# Altium schematic symbol library Symbols.SchLib: 43 symbols
Pins are listed as number, name and electrical type; pins without a type are passive.

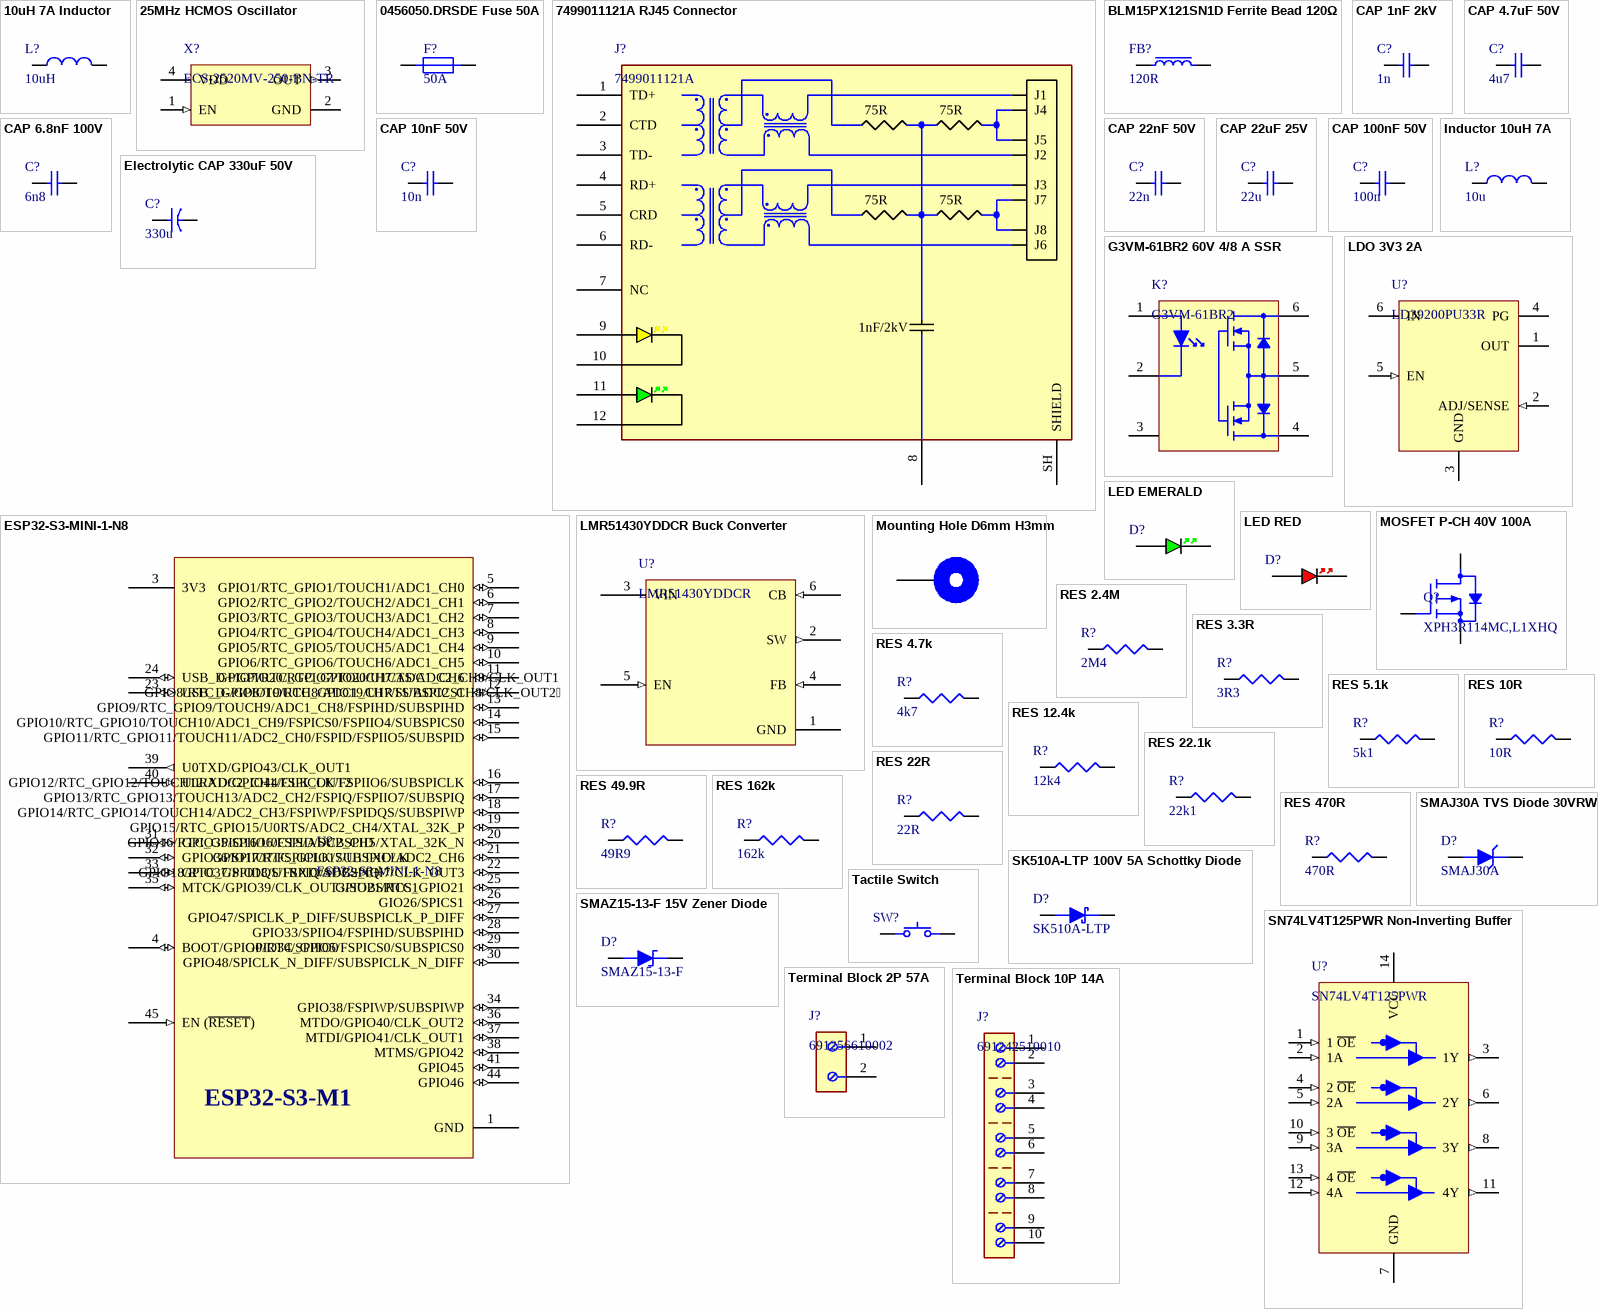
[diagram p0: symbols 10uH 7A Inductor to Terminal Block 10P 14A]

## 10uH 7A Inductor
designator L?, comment 10uH
10 µH Shielded Inductor 7 A 29.82mOhm Max Nonstandard; Manufacturer: Pulse Electronics; Mfr. Part #: PM5432.103NLT; Qty.: 1; Ext. Price: 1.83; Supplier: DigiKey; Supplier Part #: 553-PM5432.103NLTCT-ND; Package: SMD, 6.8x6.6; Unit Price: 1.83; ComponentLink1Description: Datasheet; ComponentLink1URL: https://www.yageogroup.com/content/datasheet/asset/file/DATASHEET_P890; ComponentLink2Description: Distributor Link; ComponentLink2URL: https://www.digikey.com/en/products/detail/pulse-electronics/PM5432-103NLT/13693950
footprint L SMD 6.8x6.6
pins: 1, 2

## 25MHz HCMOS Oscillator
designator X?, comment ECS-2520MV-250-BN-TR
25 MHz XO (Standard) HCMOS Oscillator 1.6V ~ 3.6V Enable/Disable 4-SMD, No Lead; Manufacturer: ECS Inc.; Qty.: 1; Ext. Price: 1.16; Mfr. Part #: ECS-2520MV-250-BN-TR; Supplier: DigiKey; Supplier Part #: XC2751CT-ND; Package: 4-SMD (2.5x2); Unit Price: 1.16; ComponentLink1Description: Datasheet; ComponentLink1URL: https://ecsxtal.com/store/pdf/ECS-2520MV.pdf; ComponentLink2Description: Distributor Link; ComponentLink2URL: https://www.digikey.com/en/products/detail/ecs-inc/ECS-2520MV-250-BN-TR/8593607?s=N4IgTCBcDaIKIGEDKBaMBWMAGAsgNTXSxQCEA5FAFQCUQBdAXyA
footprint SMD2520-4P
pins: 1 EN (in), 2 GND (power), 3 OUT (out), 4 VDD (power)

## 0456050.DRSDE Fuse 50A
designator F?, comment 50A
50 A 250 V 80 V Fuse Board Mount (Cartridge Style Excluded) Surface Mount 2-SMD, Square End Block; Manufacturer: Littelfuse Inc.; Mfr. Part #: 0456050.DRSDE; Qty.: 1; Ext. Price: 6.13; Supplier: DigiKey; Supplier Part #: 18-0456050.DRSDECT-ND; Package: SMD,12.2 x 4.5 x 4.5 mm; Unit Price: 6.13; ComponentLink1Description: Datasheet; ComponentLink1URL: https://www.littelfuse.com/assetdocs/littelfuse-nano2-fuse-456sde-series-datasheet?assetguid=a4746110-f339-4e5a-85ce-ce23fbd88349; ComponentLink2Description: Distributor Link; ComponentLink2URL: https://www.digikey.com/en/products/detail/littelfuse-inc/0456050-DRSDE/14005839
footprint SMD Fuse,12.2 x 4.5 x 4.5 mm
pins: 1, 2

## 7499011121A RJ45 Connector
designator J?, comment 7499011121A
1 Port RJ45 with Magnetics Through Hole 10/100 Base-T, AutoMDIX; Manufacturer: Würth Elektronik; Qty.: 1; Ext. Price: 6.55; Mfr. Part #: 7499011121A; Supplier: DigiKey; Supplier Part #: 732-4509-5-ND; Package: Through Hole; Unit Price: 6.55; ComponentLink1Description: Datasheet; ComponentLink1URL: https://www.we-online.com/components/products/datasheet/7499011121A.pdf; ComponentLink2Description: Distributor Link; ComponentLink2URL: https://www.digikey.com/en/products/detail/w%C3%BCrth-elektronik/7499011121A/4031599
footprint RJ45 TH Connector
pins: 1 TD+, 2 CTD, 3 TD-, 4 RD+, 5 CRD, 6 RD-, 7 NC, 8, 9 Y_LED_A, 10 Y_LED_K, 11 G_LED_A, 12 G_LED_K, SH SHIELD
text: J1; 75R; J4; J5; J2; J3; J7; J8; J6; 1nF/2kV

## BLM15PX121SN1D Ferrite Bead 120Ω
designator FB?, comment 120R
120 Ohms @ 100 MHz 1 Power Line Ferrite Bead 0402 (1005 Metric) 2A 55mOhm; Manufacturer: Murata Electronics; Mfr. Part #: BLM15PX121SN1D; Qty.: 1; Ext. Price: 0.1; Supplier: DigiKey; Supplier Part #: 490-9656-1-ND; Package: 0402; Unit Price: 0.1; ComponentLink1Description: Datasheet; ComponentLink1URL: https://www.murata.com/en-us/products/productdata/8796740059166/ENFA0018.pdf; ComponentLink2Description: Distributor Link; ComponentLink2URL: https://www.digikey.com/en/products/detail/murata-electronics/BLM15PX121SN1D/4421095?s=N4IgTCBcDaIEIBkCyBGArABQBorCgygHIoAiIAugL5A
footprint FB0402
pins: 1, 2

## CAP 1nF 2kV
designator C?, comment 1n
2kV 1nF X7R ±10% 1206 Multilayer Ceramic Capacitors MLCC - SMD/SMT ROHS; Manufacturer: Johanson Dielectrics; Mfr. Part #: 202R18W102KV4E; Qty.: 1; Ext. Price: 0.17; Supplier: DigiKey; Supplier Part #: 709-VPDD202W102K1GV001ECT-ND; Package: 1206; Unit Price: 0.17; ComponentLink1Description: Datasheet; ComponentLink2Description: Distributor Link; ComponentLink2URL: https://www.digikey.com/en/products/detail/johanson-dielectrics-inc/VPDD202W102K1GV001E/1556359?s=N4IgTCBcDa4AxgEoEYAcB1ZCDSA1ALAKIgC6AvkA
footprint C1206
pins: 1, 2

## CAP 4.7uF 50V
designator C?, comment 4u7
4.7 µF ±20% 50V Ceramic Capacitor X7R 0805 (2012 Metric); Manufacturer: Murata Electronics; Mfr. Part #: GRM21BZ71H475ME15K; Qty.: 1; Ext. Price: 0.27; Supplier: DigiKey; Supplier Part #: 490-GRM21BZ71H475ME15KCT-ND; Package: 0805; Unit Price: 0.27; ComponentLink1Description: Datasheet; ComponentLink1URL: https://search.murata.co.jp/Ceramy/image/img/A01X/G101/ENG/GRM21BZ71H475ME15-01.pdf; ComponentLink2Description: Distributor Link; ComponentLink2URL: https://www.digikey.com/en/products/detail/murata-electronics/GRM21BZ71H475ME15K/13904866
footprint C0805
pins: 1, 2

## CAP 6.8nF 100V
designator C?, comment 6n8
6800 pF ±10% 100V Ceramic Capacitor X7R 0402 (1005 Metric); Manufacturer: Samsung Electro-Mechanics; Mfr. Part #: CL05B682KC5VPNC; Qty.: 10; Ext. Price: 0.49; Supplier: DigiKey; Supplier Part #: 1276-CL05B682KC5VPNCCT-ND; Package: 0402; Unit Price: 0.049; ComponentLink1Description: Datasheet; ComponentLink1URL: https://mm.digikey.com/Volume0/opasdata/d220001/medias/docus/5458/CL05B682KC5VPNC_Spec.pdf; ComponentLink2Description: Distributor Link; ComponentLink2URL: https://www.digikey.com/en/products/detail/samsung-electro-mechanics/CL05B682KC5VPNC/20498579
footprint C0402
pins: 1, 2

## CAP 10nF 50V
designator C?, comment 10n
10000 pF ±10% 50V Ceramic Capacitor X7R 0402 (1005 Metric); Manufacturer: KEMET; Mfr. Part #: C0402C103K5REC7411; Qty.: 10; Ext. Price: 0.56; Supplier: DigiKey; Supplier Part #: 399-C0402C103K5REC7411CT-ND; Package: 0402; Unit Price: 0.056; ComponentLink1Description: Datasheet; ComponentLink1URL: https://www.yageogroup.com/content/datasheet/asset/file/KEM_C1090_X7R_ESD; ComponentLink2Description: Distributor Link; ComponentLink2URL: https://www.digikey.com/en/products/detail/kemet/C0402C103K5REC7411/8645041
footprint C0402
pins: 1, 2

## CAP 22nF 50V
designator C?, comment 22n
0.022 µF ±10% 50V Ceramic Capacitor X7R 0402 (1005 Metric); Manufacturer: YAGEO; Mfr. Part #: CC0402KRX7R9BB223; Qty.: 10; Ext. Price: 0.29; Supplier: DigiKey; Supplier Part #: 311-1722-1-ND; Package: 0402; Unit Price: 0.029; ComponentLink1Description: Datasheet; ComponentLink1URL: https://www.yageogroup.com/content/datasheet/asset/file/UPY-GPHC_X7R_6_3V-TO-250V; ComponentLink2Description: Distributor Link; ComponentLink2URL: https://www.digikey.com/en/products/detail/yageo/CC0402KRX7R9BB223/5195131
footprint C0402
pins: 1, 2

## CAP 22uF 25V
designator C?, comment 22u
22 µF ±20% 25V Ceramic Capacitor X5R 0805 (2012 Metric); Manufacturer: Samsung Electro-Mechanics; Mfr. Part #: CL21A226MAYNNNE; Qty.: 10; Ext. Price: 0.43; Supplier: DigiKey; Supplier Part #: 1276-CL21A226MAYNNNECT-ND; Package: 0805; Unit Price: 0.043; ComponentLink1Description: Datasheet; ComponentLink1URL: https://mm.digikey.com/Volume0/opasdata/d220001/medias/docus/339/CL21A226MAYNNNE_Spec.pdf; ComponentLink2Description: Distributor Link; ComponentLink2URL: https://www.digikey.com/en/products/detail/samsung-electro-mechanics/CL21A226MAYNNNE/10479857
footprint C0805
pins: 1, 2

## CAP 100nF 50V
designator C?, comment 100n
0.1 µF ±10% 50V Ceramic Capacitor X7R 0603 (1608 Metric); Manufacturer: KEMET; Mfr. Part #: C0603C104K5RACTU; Qty.: 10; Ext. Price: 0.11; Supplier: DigiKey; Supplier Part #: 399-C0603C104K5RACTUCT-ND; Package: 0603; Unit Price: 0.011; ComponentLink1Description: Datasheet; ComponentLink1URL: https://www.yageogroup.com/content/datasheet/asset/file/KEM_C1002_X7R_SMD; ComponentLink2Description: Distributor Link; ComponentLink2URL: https://www.digikey.com/en/products/detail/kemet/C0603C104K5RACTU/1465594
footprint C0603
pins: 1, 2

## Electrolytic CAP 330uF 50V
designator C?, comment 330u
330 µF 50 V Aluminum Electrolytic Capacitors Radial, Can - SMD 2000 Hrs @ 105°C; Manufacturer: Nichicon; Mfr. Part #: UCM1H331MNL1GS; Qty.: 1; Ext. Price: 1.18; Supplier: DigiKey; Supplier Part #: 493-14535-1-ND; Package: SMD,D10.3xL10.3mm; Unit Price: 1.18; ComponentLink1Description: Datasheet; ComponentLink1URL: https://www.nichicon.co.jp/english/series_items/catalog_pdf/e-ucm.pdf; ComponentLink2Description: Distributor Link; ComponentLink2URL: https://www.digikey.com/en/products/detail/nichicon/UCM1H331MNL1GS/4991858
footprint SMD CAP,D10.3xL10.3mm
pins: 1, 2

## ESP32-S3-MINI-1-N8
designator U?
Small-sized module supporting 2.4 GHz Wi-Fi (802.11b/g/n) and Bluetooth® 5 / Built around ESP32-S3 series of SoCs, Xtensa® dual-core 32-bit LX7 microprocessor. / Flash up to 8 MB, optional 2 MB PSRAM in chip package. / 39 GPIOs, rich set of peripherals; Manufacturer: Espressif Systems; Qty.: 1; Ext. Price: 5.28; Mfr. Part #: ESP32-S3-MINI-1-N8; Supplier: DigiKey; Supplier Part #: 5407-ESP32-S3-MINI-1-N8CT-ND; Package: SMD; Unit Price: 5.28; ComponentLink1Description: Datasheet; ComponentLink1URL: https://documentation.espressif.com/esp32-s3-mini-1_mini-1u_datasheet_en.pdf; ComponentLink2Description: Distributor Link; ComponentLink2URL: https://www.digikey.com/en/products/detail/espressif-systems/ESP32-S3-MINI-1-N8/15295890
footprint ESP32-S3-MINI-1-N8
pins: 1 GND (power), 3 3V3 (power), 4 BOOT/GPIO0/RTC_GPIO0 (io), 5 GPIO1/RTC_GPIO1/TOUCH1/ADC1_CH0 (io), 6 GPIO2/RTC_GPIO2/TOUCH2/ADC1_CH1 (io), 7 GPIO3/RTC_GPIO3/TOUCH3/ADC1_CH2 (io), 8 GPIO4/RTC_GPIO4/TOUCH4/ADC1_CH3 (io), 9 GPIO5/RTC_GPIO5/TOUCH5/ADC1_CH4 (io), 10 GPIO6/RTC_GPIO6/TOUCH6/ADC1_CH5 (io), 11 GPIO7/RTC_GPIO7/TOUCH7/ADC1_CH6 (io), 12 GPIO8/RTC_GPIO8/TOUCH8/ADC1_CH7/SUBSPICS1 (io), 13 GPIO9/RTC_GPIO9/TOUCH9/ADC1_CH8/FSPIHD/SUBSPIHD (io), 14 GPIO10/RTC_GPIO10/TOUCH10/ADC1_CH9/FSPICS0/FSPIIO4/SUBSPICS0 (io), 15 GPIO11/RTC_GPIO11/TOUCH11/ADC2_CH0/FSPID/FSPIIO5/SUBSPID (io), 16 GPIO12/RTC_GPIO12/TOUCH12/ADC2_CH1/FSPICLK/FSPIIO6/SUBSPICLK (io), 17 GPIO13/RTC_GPIO13/TOUCH13/ADC2_CH2/FSPIQ/FSPIIO7/SUBSPIQ (io), 18 GPIO14/RTC_GPIO14/TOUCH14/ADC2_CH3/FSPIWP/FSPIDQS/SUBSPIWP (io), 19 GPIO15/RTC_GPIO15/U0RTS/ADC2_CH4/XTAL_32K_P (io), 20 GPIO16/RTC_GPIO16/U0CTS/ADC2_CH5/XTAL_32K_N (io), 21 GPIO17/RTC_GPIO17/U1TXD/ADC2_CH6 (io), 22 GPIO18/RTC_GPIO18/U1RXD/ADC2_CH7/CLK_OUT3 (io), 23 USB_D-/GPIO19/RTC_GPIO19/U1RTS/ADC2_CH8/CLK_OUT2 (io), 24 USB_D+/GPIO20/RTC_GPIO20/U1CTS/ADC2_CH9/CLK_OUT1 (io), 25 GPIO21/RTC_GPIO21 (io), 26 GIO26/SPICS1 (io), 27 GPIO47/SPICLK_P_DIFF/SUBSPICLK_P_DIFF (io), 28 GPIO33/SPIIO4/FSPIHD/SUBSPIHD (io), 29 GPIO34/SPIIO5/FSPICS0/SUBSPICS0 (io), 30 GPIO48/SPICLK_N_DIFF/SUBSPICLK_N_DIFF (io), 31 GPIO35/SPIIO6/FSPID/SUBSPID (io), 32 GPIO36/SPIIO7/FSPICLK/SUBSPICLK (io), 33 GPIO37/SPIDQS/FSPIQ/SUBSPIQ (io), 34 GPIO38/FSPIWP/SUBSPIWP (io), 35 MTCK/GPIO39/CLK_OUT3/SUBSPICS1 (io), 36 MTDO/GPIO40/CLK_OUT2 (io), 37 MTDI/GPIO41/CLK_OUT1 (io), 38 MTMS/GPIO42 (io), 39 U0TXD/GPIO43/CLK_OUT1 (out), 40 U0RXD/GPIO44/CLK_OUT2 (in), 41 GPIO45 (io), 44 GPIO46 (io), 45 EN (~{RESET}) (in)
text: ESP32-S3-M1

## G3VM-61BR2 60V 4/8 A SSR
designator K?, comment G3VM-61BR2
2.5kV 60V 1.64V DIP-6 Solid State Relays (SSR) RoHS; Manufacturer: Omron Electronics Inc-EMC Div; Qty.: 1; Ext. Price: 10.71; Mfr. Part #: G3VM-61BR2; Supplier: DigiKey; Supplier Part #: 39-G3VM-61BR2-ND; Package: DIP-6; Unit Price: 10.71; ComponentLink1Description: Datasheet; ComponentLink1URL: https://mm.digikey.com/Volume0/opasdata/d220001/medias/docus/311/G3VM-zBRzzzERzz_DS.pdf; ComponentLink2Description: Distributor Link; ComponentLink2URL: https://www.digikey.com/en/products/detail/omron-electronics-inc-emc-div/G3VM-61BR2/9920126?s=N4IgTCBcDaIOIGYBqBZAtANgIwCEBKEAugL5A
footprint DIP6
pins: 1, 2, 3 (hiz), 4 (power), 5 (power), 6 (power)

## Inductor 10uH 7A
designator L?, comment 10u
10 µH Shielded Drum Core, Wirewound Inductor 7.1 A 21mOhm Max Nonstandard; Manufacturer: Würth Elektronik; Mfr. Part #: 7447709100; Qty.: 1; Ext. Price: 2.57; Supplier: DigiKey; Supplier Part #: 732-7447709100CT-ND; Package: SMD,12x12.8mm; Unit Price: 2.57; ComponentLink1Description: Datasheet; ComponentLink1URL: https://www.we-online.com/components/products/datasheet/7447709100.pdf; ComponentLink2Description: Distributor Link; ComponentLink2URL: https://www.digikey.com/en/products/detail/w%C3%BCrth-elektronik/7447709100/1638646
footprint L SMD,12x12.8mm
pins: 1, 2

## LDO 3V3 2A
designator U?, comment LD39200PU33R
Linear Voltage Regulator IC Positive Fixed 1 Output 2A 6-DFN (3x3); Manufacturer: STMicroelectronics; Qty.: 1; Ext. Price: 1.05; Mfr. Part #: LD39200PU33R; Supplier: DigiKey; Supplier Part #: 497-15229-1-ND; Package: DFN-6(3x3); Unit Price: 1.05; ComponentLink1Description: Datasheet; ComponentLink1URL: https://www.st.com/content/ccc/resource/technical/document/datasheet/4b/e6/2e/a4/16/04/46/9d/DM00102135.pdf/files/DM00102135.pdf/jcr:content/translations/en.DM00102135.pdf; ComponentLink2Description: Distributor Link; ComponentLink2URL: https://www.digikey.com/en/products/detail/stmicroelectronics/LD39200PU33R/5131797
footprint DFN-6(3x3)
pins: 1 OUT (power), 2 ADJ/SENSE (in), 3 GND (power), 4 PG (hiz), 5 EN (in), 6 IN (power)

## LED EMERALD
designator D?, comment XL-2012UGC  (value not drawn)
Green 525nm LED Indication - Discrete 2.9V 0805 (2012 Metric); Manufacturer: XINGLIGHT; Qty.: 3000; Ext. Price: 33.75; Mfr. Part #: XL-2012UGC; Supplier: DigiKey; Supplier Part #: 5962-XL-2012UGCTR-ND; Package: 0805; Unit Price: 0.01125; ComponentLink1Description: Datasheet; ComponentLink1URL: https://mm.digikey.com/Volume0/opasdata/d220001/medias/docus/6472/5962_XL-2012UGC%200805%E7%BF%A0%E7%BB%BF.pdf; ComponentLink2Description: Distributor Link; ComponentLink2URL: https://www.digikey.com/en/products/detail/xinglight/XL-2012UGC/25673312
footprint 0805 G LED
pins: 1, 2

## LED RED
designator D?, comment XL-2012SURC  (value not drawn)
Red 623nm LED Indication - Discrete 2.1V 0805 (2012 Metric); Manufacturer: XINGLIGHT; Qty.: 3000; Ext. Price: 33.75; Mfr. Part #: XL-2012SURC; Supplier: DigiKey; Supplier Part #: 5962-XL-2012SURCTR-ND; Package: 0805; Unit Price: 0.01125; ComponentLink1Description: Datasheet; ComponentLink1URL: https://mm.digikey.com/Volume0/opasdata/d220001/medias/docus/6472/5962_XL-2012SURC%200805%E7%BA%A2.pdf; ComponentLink2Description: Distributor Link; ComponentLink2URL: https://www.digikey.com/en/products/detail/xinglight/XL-2012SURC/25673006
footprint 0805 R LED
pins: 1, 2

## LMR51430YDDCR Buck Converter
designator U?, comment LMR51430YDDCR
Buck Switching Regulator IC Positive Adjustable 0.6V 1 Output 3A SOT-23-6 Thin, TSOT-23-6; Manufacturer: Texas Instruments; Qty.: 1; Ext. Price: 1.58; Mfr. Part #: LMR51430YDDCR; Supplier: DigiKey; Supplier Part #: 296-LMR51430YDDCRCT-ND; Package: TSOT-23-6; Unit Price: 1.58; ComponentLink1Description: Datasheet; ComponentLink1URL: https://www.ti.com/lit/ds/symlink/lmr51430.pdf; ComponentLink2Description: Distributor Link; ComponentLink2URL: https://www.digikey.com/en/products/detail/texas-instruments/LMR51430YDDCR/17878361?s=N4IgTCBcDaIDIFkBKBWAjAFgMwAYCaAIgQMJIgC6AvkA
footprint SOT-23-6
pins: 1 GND (power), 2 SW (out), 3 VIN (power), 4 FB (in), 5 EN (in), 6 CB (in)

## MOSFET P-CH 40V 100A
designator Q?, comment XPH3R114MC,L1XHQ
P-Channel 40 V 100A (Ta) 960mW (Ta), 170W (Tc) Surface Mount 8-SOP Advance (5x5); Manufacturer: Toshiba Semiconductor and Storage; Qty.: 1; Ext. Price: 1.82; Mfr. Part #: XPH3R114MC,L1XHQ; Supplier: DigiKey; Supplier Part #: 264-XPH3R114MCL1XHQCT-ND; Package: 8-SOP Advance (5x5); Unit Price: 1.82; ComponentLink1Description: Datasheet; ComponentLink1URL: https://toshiba.semicon-storage.com/info/XPH3R114MC_datasheet_en_20241216.pdf?did=63639&prodName=XPH3R114MC; ComponentLink2Description: Distributor Link; ComponentLink2URL: https://www.digikey.com/en/products/detail/toshiba-semiconductor-and-storage/XPH3R114MC-L1XHQ/12155003
footprint 8-SOP Advance (5x5)
pins: 1, 4, 5

## Mounting Hole D6mm H3mm
designator J?  (value not drawn)  (no BOM)
footprint MH D6mm H3mm
pins: 1

## RES 2.4M
designator R?, comment 2M4
2.4 MOhms ±1% 0.1W, 1/10W Chip Resistor 0603 (1608 Metric) Moisture Resistant Thick Film; Manufacturer: YAGEO; Mfr. Part #: RC0603FR-072M4L; Qty.: 10; Ext. Price: 0.11; Supplier: DigiKey; Supplier Part #: 13-RC0603FR-072M4LCT-ND; Package: 0603; Unit Price: 0.011; ComponentLink1Description: Datasheet; ComponentLink1URL: https://www.yageogroup.com/content/datasheet/asset/file/PYU-RT_1-TO-0-01_ROHS_L; ComponentLink2Description: Distributor Link; ComponentLink2URL: https://www.digikey.com/en/products/detail/yageo/RC0603FR-072M4L/5918310
footprint R0603
pins: 1, 2

## RES 3.3R
designator R?, comment 3R3
3.3 Ohms ±1% 0.063W, 1/16W Chip Resistor 0402 (1005 Metric) Moisture Resistant Thick Film; Manufacturer: YAGEO; Mfr. Part #: RC0402FR-073R3L; Qty.: 10; Ext. Price: 0.06; Supplier: DigiKey; Supplier Part #: 311-3.30LRCT-ND; Package: 0402; Unit Price: 0.006; ComponentLink1Description: Datasheet; ComponentLink1URL: https://www.yageogroup.com/content/datasheet/asset/file/PYU-RC_GROUP_51_ROHS_L; ComponentLink2Description: Distributor Link; ComponentLink2URL: https://www.digikey.com/en/products/detail/yageo/RC0402FR-073R3L/1037049
footprint R0402
pins: 1, 2

## RES 4.7k
designator R?, comment 4k7
4.7 kOhms ±1% 0.1W, 1/10W Chip Resistor 0603 (1608 Metric) Moisture Resistant Thick Film; Manufacturer: YAGEO; Mfr. Part #: RC0603FR-074K7L; Qty.: 10; Ext. Price: 0.09; Supplier: DigiKey; Supplier Part #: 311-4.70KHRCT-ND; Package: 0603; Unit Price: 0.009; ComponentLink1Description: Datasheet; ComponentLink1URL: https://www.yageogroup.com/content/datasheet/asset/file/PYU-RC_GROUP_51_ROHS_L; ComponentLink2Description: Distributor Link; ComponentLink2URL: https://www.digikey.com/en/products/detail/yageo/RC0603FR-074K7L/727212
footprint R0603
pins: 1, 2

## RES 5.1k
designator R?, comment 5k1
5.1 kOhms ±1% 0.1W, 1/10W Chip Resistor 0603 (1608 Metric) Moisture Resistant Thick Film; Manufacturer: YAGEO; Mfr. Part #: RC0603FR-075K1L; Qty.: 10; Ext. Price: 0.07; Supplier: DigiKey; Supplier Part #: 311-5.10KHRCT-ND; Package: 0603; Unit Price: 0.007; ComponentLink1Description: Datasheet; ComponentLink1URL: https://www.yageogroup.com/content/datasheet/asset/file/PYU-RC_GROUP_51_ROHS_L; ComponentLink2Description: Distributor Link; ComponentLink2URL: https://www.digikey.com/en/products/detail/yageo/RC0603FR-075K1L/727268
footprint R0603
pins: 1, 2

## RES 10R
designator R?, comment 10R
10 Ohms ±1% 0.063W, 1/16W Chip Resistor 0402 (1005 Metric) Automotive AEC-Q200, Moisture Resistant Thick Film; Manufacturer: YAGEO; Mfr. Part #: AC0402FR-0710RL; Qty.: 10; Ext. Price: 0.1; Supplier: DigiKey; Supplier Part #: YAG3438CT-ND; Package: 0402; Unit Price: 0.01; ComponentLink1Description: Datasheet; ComponentLink1URL: https://www.yageogroup.com/content/datasheet/asset/file/PYU-AC_51_ROHS_L; ComponentLink2Description: Distributor Link; ComponentLink2URL: https://www.digikey.com/en/products/detail/yageo/AC0402FR-0710RL/5895033
footprint R0402
pins: 1, 2

## RES 12.4k
designator R?, comment 12k4
12.4 kOhms ±1% 0.1W, 1/10W Chip Resistor 0603 (1608 Metric) Moisture Resistant Thick Film; Manufacturer: YAGEO; Mfr. Part #: RC0603FR-0712K4L; Qty.: 10; Ext. Price: 0.07; Supplier: DigiKey; Supplier Part #: 311-12.4KHRCT-ND; Package: 0603; Unit Price: 0.007; ComponentLink1Description: Datasheet; ComponentLink1URL: https://www.yageogroup.com/content/datasheet/asset/file/PYU-RT_1-TO-0-01_ROHS_L; ComponentLink2Description: Distributor Link; ComponentLink2URL: https://www.digikey.com/en/products/detail/yageo/RC0603FR-0712K4L/726917
footprint R0603
pins: 1, 2

## RES 22.1k
designator R?, comment 22k1
22.1 kOhms ±1% 0.1W, 1/10W Chip Resistor 0603 (1608 Metric) Thin Film; Manufacturer: YAGEO; Mfr. Part #: RT0603FRE0722K1L; Qty.: 10; Ext. Price: 0.14; Supplier: DigiKey; Supplier Part #: 13-RT0603FRE0722K1LCT-ND; Package: 0603; Unit Price: 0.014; ComponentLink1Description: Datasheet; ComponentLink1URL: https://www.yageogroup.com/content/datasheet/asset/file/PYU-RT_1-TO-0-01_ROHS_L; ComponentLink2Description: Distributor Link; ComponentLink2URL: https://www.digikey.com/en/products/detail/yageo/RT0603FRE0722K1L/1075211
footprint R0603
pins: 1, 2

## RES 22R
designator R?, comment 22R
22 Ohms ±1% 0.063W, 1/16W Chip Resistor 0402 (1005 Metric) Moisture Resistant Thick Film; Manufacturer: YAGEO; Mfr. Part #: RC0402FR-0722RL; Qty.: 10; Ext. Price: 0.07; Supplier: DigiKey; Supplier Part #: 311-22.0LRCT-ND; Package: 0402; Unit Price: 0.007; ComponentLink1Description: Datasheet; ComponentLink1URL: https://www.yageogroup.com/content/datasheet/asset/file/PYU-RC_GROUP_51_ROHS_L; ComponentLink2Description: Distributor Link; ComponentLink2URL: https://www.digikey.com/en/products/detail/yageo/RC0402FR-0722RL/726562
footprint R0402
pins: 1, 2

## RES 49.9R
designator R?, comment 49R9
49.9 Ohms ±1% 0.063W, 1/16W Chip Resistor 0402 (1005 Metric) Moisture Resistant Thick Film; Manufacturer: YAGEO; Mfr. Part #: RC0402FR-0749R9L; Qty.: 10; Ext. Price: 0.2; Supplier: DigiKey; Supplier Part #: 311-49.9LRCT-ND; Package: 0402; Unit Price: 0.02; ComponentLink1Description: Datasheet; ComponentLink1URL: https://www.yageogroup.com/content/datasheet/asset/file/PYU-RC_GROUP_51_ROHS_L; ComponentLink2Description: Distributor Link; ComponentLink2URL: https://www.digikey.com/en/products/detail/yageo/RC0402FR-0749R9L/726621
footprint R0402
pins: 1, 2

## RES 162k
designator R?, comment 162k
162 kOhms ±1% 0.1W, 1/10W Chip Resistor 0603 (1608 Metric) Moisture Resistant Thick Film; Manufacturer: YAGEO; Mfr. Part #: RC0603FR-07162KL; Qty.: 10; Ext. Price: 0.06; Supplier: DigiKey; Supplier Part #: 311-162KHRCT-ND; Package: 0603; Unit Price: 0.006; ComponentLink1Description: Datasheet; ComponentLink1URL: https://www.yageogroup.com/content/datasheet/asset/file/PYU-RT_1-TO-0-01_ROHS_L; ComponentLink2Description: Distributor Link; ComponentLink2URL: https://www.digikey.com/en/products/detail/yageo/RC0603FR-07162KL/726975
footprint R0603
pins: 1, 2

## RES 470R
designator R?, comment 470R
470 Ohms ±1% 0.1W, 1/10W Chip Resistor 0603 (1608 Metric) Thin Film; Manufacturer: YAGEO; Mfr. Part #: RT0603FRE07470RL; Qty.: 10; Ext. Price: 0.1; Supplier: DigiKey; Supplier Part #: YAG5742CT-ND; Package: 0603; Unit Price: 0.01; ComponentLink1Description: Datasheet; ComponentLink1URL: https://www.yageogroup.com/content/datasheet/asset/file/PYU-RT_1-TO-0-01_ROHS_L; ComponentLink2Description: Distributor Link; ComponentLink2URL: https://www.digikey.com/en/products/detail/yageo/RT0603FRE07470RL/1075383
footprint R0603
pins: 1, 2

## SK510A-LTP 100V 5A Schottky Diode
designator D?, comment SK510A-LTP
Diode 100 V 5A Surface Mount DO-214AC (SMA); Manufacturer: MCC (Micro Commercial Components); Qty.: 1; Ext. Price: 0.5; Mfr. Part #: SK510A-LTP; Supplier: DigiKey; Supplier Part #: SK510A-LTPMSCT-ND; Package: DO-214AC(SMA); Unit Price: 0.5; ComponentLink1Description: Datasheet; ComponentLink1URL: https://www.mccsemi.com/pdf/Products/SK52A-L_SK5200A-L(SMA).pdf; ComponentLink2Description: Distributor Link; ComponentLink2URL: https://www.digikey.com/en/products/detail/mcc-micro-commercial-components/SK510A-LTP/5114130
footprint DO-214AC(SMA)
pins: 1, 2

## SMAJ30A TVS Diode 30VRWM
designator D?, comment SMAJ30A
48.4V Clamp 8.3A Ipp Tvs Diode Surface Mount DO-214AC; Manufacturer: Würth Elektronik; Qty.: 1; Ext. Price: 0.29; Mfr. Part #: SMAJ30A; Supplier: DigiKey; Supplier Part #: 732-SMAJ30ACT-ND; Package: DO-214AC(SMA); Unit Price: 0.29; ComponentLink1Description: Datasheet; ComponentLink1URL: https://www.we-online.com/components/products/datasheet/824500301.pdf; ComponentLink2Description: Distributor Link; ComponentLink2URL: https://www.digikey.com/en/products/detail/w%C3%BCrth-elektronik/SMAJ30A/5870799
footprint DO-214AC(SMA)
pins: 1, 2

## SMAZ15-13-F 15V Zener Diode
designator D?, comment SMAZ15-13-F
Zener Diode 15 V 1 W ±5% Surface Mount SMA; Manufacturer: Diodes Incorporated; Qty.: 1; Ext. Price: 0.28; Mfr. Part #: SMAZ15-13-F; Supplier: DigiKey; Supplier Part #: SMAZ15-FDICT-ND; Package: DO-214AC(SMA); Unit Price: 0.28; ComponentLink1Description: Datasheet; ComponentLink1URL: https://www.diodes.com/assets/Datasheets/ds18015.pdf; ComponentLink2Description: Distributor Link; ComponentLink2URL: https://www.digikey.com/en/products/detail/diodes-incorporated/SMAZ15-13-F/775753
footprint DO-214AC(SMA)
pins: 1, 2

## SN74LV4T125PWR Non-Inverting Buffer
designator U?, comment SN74LV4T125PWR
Buffer, Non-Inverting 4 Element 1 Bit per Element 3-State Output 14-TSSOP; Manufacturer: Texas Instruments; Qty.: 1; Ext. Price: 0.79; Mfr. Part #: SN74LV4T125PWR; Supplier: DigiKey; Supplier Part #: 296-40545-1-ND; Package: 14-TSSOP; Unit Price: 0.79; ComponentLink1Description: Datasheet; ComponentLink1URL: https://www.ti.com/lit/ds/symlink/sn74lv4t125.pdf?HQS=dis-dk-null-digikeymode-dsf-pf-null-wwe&ts=1762330787956&ref_url=https%253A%252F%252Fwww.ti.com%252Fgeneral%252Fdocs%252Fsuppproductinfo.tsp%253FdistId%253D10%2526gotoUrl%253Dhttps%253A%252F%252Fwww.ti.com%252Flit%252Fgpn%252Fsn74lv4t125; ComponentLink2Description: Distributor Link; ComponentLink2URL: https://www.digikey.com/en/products/detail/texas-instruments/SN74LV4T125PWR/4806529
footprint 14-TSSOP
pins: 1 1 ~{OE} (in), 2 1A (in), 3 1Y (out), 4 2 ~{OE} (in), 5 2A (in), 6 2Y (out), 7 GND (power), 8 3Y (out), 9 3A (in), 10 3 ~{OE} (in), 11 4Y (out), 12 4A (in), 13 4 ~{OE} (in), 14 VCC (power)

## Tactile Switch
designator SW?, comment SKRPANE010  (value not drawn)
Without Bracket 3.2mm 2.5mm Oval Button Surface Mount,Vertical 4.2mm SPST 1,000,000 Cycles 16V 1.57N SMD Tactile Switches ROHS; Manufacturer: ALPSALPINE; Qty.: 1; Ext. Price: 0.27; Mfr. Part #: SKRPANE010; Supplier: DigiKey; Supplier Part #: 4809-SKRPANE010CT-ND; Package: SMD; Unit Price: 0.27; ComponentLink1Description: Datasheet; ComponentLink1URL: https://tech.alpsalpine.com/cms.media/product_spec_skrpane010_en_1e0076b4ef.pdf; ComponentLink2Description: Distributor Link; ComponentLink2URL: https://www.digikey.com/en/products/detail/alps-alpine/SKRPANE010/26519635?s=N4IgTCBcDaIMoGkBKAFAggOQKIAYCMOIAugL5A
footprint SMD Tactile Switch
pins: 1, 2

## Terminal Block 2P 57A
designator J?, comment 691256610002
2 Position Wire to Board Terminal Block Horizontal with Board 0.400" (10.16mm) Through Hole; Manufacturer: Würth Elektronik; Qty.: 1; Ext. Price: 3.36; Mfr. Part #: 691256610002; Supplier: DigiKey; Supplier Part #: 732-11031-ND; Package: Through Hole, P=10.16mm; Unit Price: 3.36; ComponentLink1Description: Datasheet; ComponentLink1URL: https://www.we-online.com/components/products/datasheet/691256610002.pdf; ComponentLink2Description: Distributor Link; ComponentLink2URL: https://www.digikey.com/en/products/detail/w%C3%BCrth-elektronik/691256610002/6644127
footprint 10.16mm 2P STB
pins: 1, 2

## Terminal Block 10P 14A
designator J?, comment 691242510010
10 Position Wire to Board Terminal Block Horizontal with Board 0.200" (5.08mm) Through Hole; Manufacturer: Würth Elektronik; Qty.: 1; Ext. Price: 5.17; Mfr. Part #: 691242510010; Supplier: DigiKey; Supplier Part #: 732-691242510010-ND; Package: Through Hole, P=5.08mm; Unit Price: 5.17; ComponentLink1Description: Datasheet; ComponentLink1URL: https://www.we-online.com/components/products/datasheet/691242510010.pdf; ComponentLink2Description: Distributor Link; ComponentLink2URL: https://www.digikey.com/en/products/detail/w%C3%BCrth-elektronik/691242510010/11477533?s=N4IgTCBcDaIGwE4CMYAsYCsSAM2cgF0BfIA
footprint 5.08mm 10P STB
pins: 1, 2, 3, 4, 5, 6, 7, 8, 9, 10

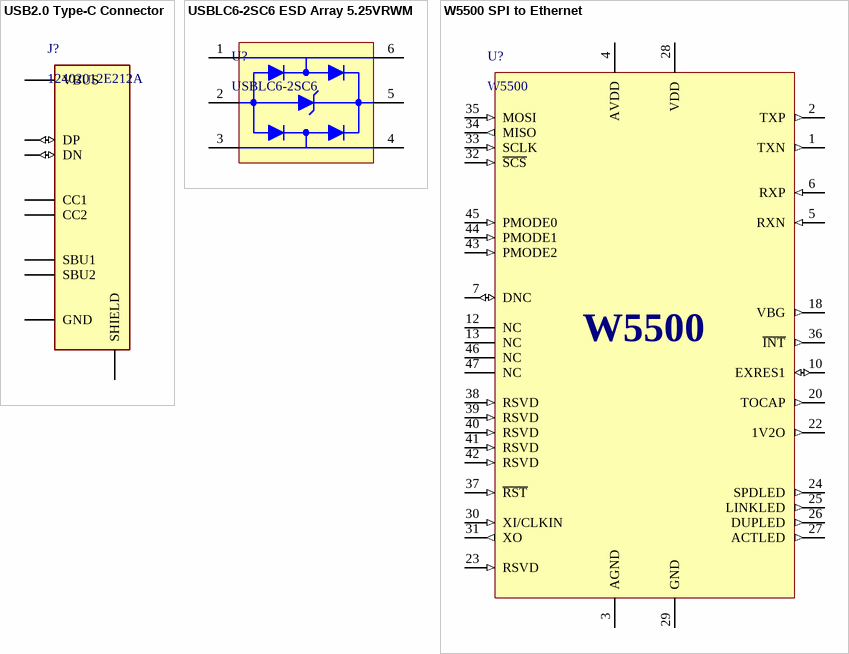
[diagram p1: symbols USB2.0 Type-C Connector to W5500 SPI to Ethernet]

## USB2.0 Type-C Connector
designator J?, comment 12402012E212A
USB-C (USB TYPE-C) USB 2.0 Receptacle Connector 24 (16+8 Dummy) Position Surface Mount, Right Angle; Through Hole; Manufacturer: Amphenol ICC (Commercial Products); Qty.: 1; Ext. Price: 0.61; Mfr. Part #: 12402012E212A; Supplier: DigiKey; Supplier Part #: 664-12402012E212ACT-ND; Package: SMD; Unit Price: 0.61; ComponentLink1Description: Datasheet; ComponentLink1URL: https://cdn.amphenol-cs.com/media/wysiwyg/files/drawing/12402012-10.pdf; ComponentLink2Description: Distributor Link; ComponentLink2URL: https://www.digikey.com/en/products/detail/amphenol-cs-commercial-products/12402012E212A/13683192?s=N4IgTCBcDaIIxgCwAYzIQUTAggiAugL5A
footprint USB-C Female 16P
pins: A1B12/B1A12 GND (power), A4B9/ B4A9 VBUS (power), A5 CC1, A6/B6 DP (io), A7/B7 DN (io), A8 SBU1, B5 CC2, B8 SBU2, SH SHIELD (power)

## USBLC6-2SC6 ESD Array 5.25VRWM
designator U?, comment USBLC6-2SC6
17V Clamp 5A (8/20µs) Ipp Tvs Diode Surface Mount SOT-23-6; Manufacturer: STMicroelectronics; Qty.: 1; Ext. Price: 0.36; Mfr. Part #: USBLC6-2SC6; Supplier: DigiKey; Supplier Part #: 497-5235-1-ND; Package: SOT-23-6L; Unit Price: 0.36; ComponentLink1Description: Datasheet; ComponentLink1URL: https://www.st.com/content/ccc/resource/technical/document/datasheet/06/1d/48/9c/6c/20/4a/b2/CD00050750.pdf/files/CD00050750.pdf/jcr:content/translations/en.CD00050750.pdf; ComponentLink2Description: Distributor Link; ComponentLink2URL: https://www.digikey.com/en/products/detail/stmicroelectronics/USBLC6-2SC6/1040559
footprint SOT23-6L
pins: 1, 2, 3, 4, 5, 6

## W5500 SPI to Ethernet
designator U?, comment W5500
Ethernet Controller 10/100 Base-T/TX PHY SPI Interface 48-LQFP (7x7); Manufacturer: WIZnet; Qty.: 1; Ext. Price: 3.67; Mfr. Part #: W5500; Supplier: DigiKey; Supplier Part #: 1278-W5500CT-ND; Package: LQFP-48(7x7); Unit Price: 3.67; ComponentLink1Description: Datasheet; ComponentLink1URL: https://docs.wiznet.io/img/products/w5500/W5500_ds_v110e.pdf; ComponentLink2Description: Distributor Link; ComponentLink2URL: https://www.digikey.com/en/products/detail/wiznet/W5500/4425702
footprint LQFP-48(7x7)
pins: 1 TXN (out), 2 TXP (out), 3 AGND (power), 4 AVDD (power), 5 RXN (in), 6 RXP (in), 7 DNC (io), 10 EXRES1 (io), 12 NC (hiz), 13 NC (hiz), 18 VBG (out), 20 TOCAP (out), 22 1V2O (out), 23 RSVD (in), 24 SPDLED (out), 25 LINKLED (out), 26 DUPLED (out), 27 ACTLED (out), 28 VDD (power), 29 GND (power), 30 XI/CLKIN (in), 31 XO (out), 32 ~{SCS} (in), 33 SCLK (in), 34 MISO (out), 35 MOSI (in), 36 ~{INT} (out), 37 ~{RST} (in), 38 RSVD (in), 39 RSVD (in), 40 RSVD (in), 41 RSVD (in), 42 RSVD (in), 43 PMODE2 (in), 44 PMODE1 (in), 45 PMODE0 (in), 46 NC (hiz), 47 NC (hiz)